# Altium schematic symbol library SCH - POWER - SWITCHMODE - TI TPS55340RTE.SchLib: 1 symbol
Pins are listed as number, name and electrical type; pins without a type are passive.

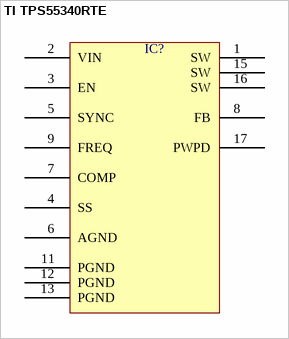
[diagram p0: symbol TI TPS55340RTE]

## TI TPS55340RTE
designator IC?  (value not drawn)
pins: 1 SW, 2 VIN, 3 EN, 4 SS, 5 SYNC, 6 AGND, 7 COMP, 8 FB, 9 FREQ, 11 PGND, 12 PGND, 13 PGND, 15 SW, 16 SW, 17 PWPD